# EAGLE library part LOGICPORT (library Intronix LA1034 logicport V2_0 Public)
Logiocanalyzer Connector Intronics Logicport LA1034 connection - - This Library (Lib) is free software: you can redistribute it and/or modify it under the terms of the GNU General Public License as published by the Free Software Foundation, either version 3 of the License, or (at your option) any later version. This lib is distributed in the hope that it will be useful, but WITHOUT ANY WARRANTY; without even the implied warranty of MERCHANTABILITY or FITNESS FOR A PARTICULAR PURPOSE. See the GNU General Public License for more details. You should have received a copy of the GNU General Public License along with this lib. If not, see http://www.gnu.org/licenses/.
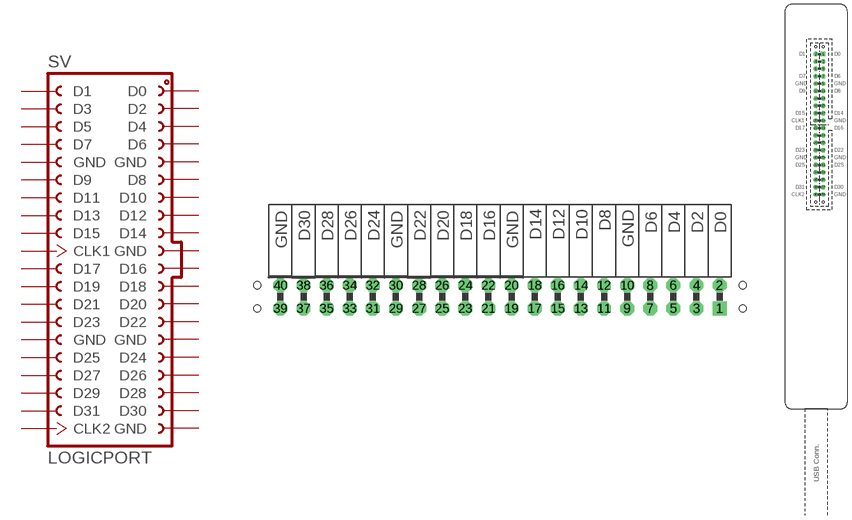
[diagram p0: symbol with the pads of LA-CONNECTOR; footprints LA-CONNECTOR, LA-CONNECTOR-TOP]

Designator prefix SV

## LOGICPORTSIDEMOUNT (OC_FARNELL: unknown; OC_NEWARK: unknown)  [LA-CONNECTOR]
1  D0  in
2  D1  in
3  D2  in
4  D3  in
5  D4  in
6  D5  in
7  D6  in
8  D7  in
9  GND  pwr
10  GND  pwr
11  D8  in
12  D9  in
13  D10  in
14  D11  in
15  D12  in
16  D13  in
17  D14  in
18  D15  in
19  GND  pwr
20  CLK1  in
21  D16  in
22  D17  in
23  D18  in
24  D19  in
25  D20  in
26  D21  in
27  D22  in
28  D23  in
29  GND  pwr
30  GND  pwr
31  D24  in
32  D25  in
33  D26  in
34  D27  in
35  D28  in
36  D29  in
37  D30  in
38  D31  in
39  GND  pwr
40  CLK2  in

## LOGICPORTTOPMOUNT  [LA-CONNECTOR-TOP]
Pads as for LA-CONNECTOR

## Footprint LA-CONNECTOR (pad centres in mm)
FEMALE HEADER
drill 1.016 square: 1 24.13,-1.27
drill 1.016 octagon: 2 24.13,1.27; 3 21.59,-1.27; 4 21.59,1.27; 5 19.05,-1.27; 6 19.05,1.27; 7 16.51,-1.27; 8 16.51,1.27; 9 13.97,-1.27; 10 13.97,1.27; 11 11.43,-1.27; 12 11.43,1.27; 13 8.89,-1.27; 14 8.89,1.27; 15 6.35,-1.27; 16 6.35,1.27; 17 3.81,-1.27; 18 3.81,1.27; 19 1.27,-1.27; 20 1.27,1.27; 21 -1.27,-1.27; 22 -1.27,1.27; 23 -3.81,-1.27; 24 -3.81,1.27; 25 -6.35,-1.27; 26 -6.35,1.27; 27 -8.89,-1.27; 28 -8.89,1.27; 29 -11.43,-1.27; 30 -11.43,1.27; 31 -13.97,-1.27; 32 -13.97,1.27; 33 -16.51,-1.27; 34 -16.51,1.27; 35 -19.05,-1.27; 36 -19.05,1.27; 37 -21.59,-1.27; 38 -21.59,1.27; 39 -24.13,-1.27; 40 -24.13,1.27
hole 0.8 at -26.67,1.27
hole 0.8 at -26.67,-1.27
hole 0.8 at 26.67,1.27
hole 0.8 at 26.67,-1.27

## Footprint LA-CONNECTOR-TOP (pad centres in mm)
drill 1.016 square: 1 1.27,24.13
drill 1.016 octagon: 2 -1.27,24.13; 3 1.27,21.59; 4 -1.27,21.59; 5 1.27,19.05; 6 -1.27,19.05; 7 1.27,16.51; 8 -1.27,16.51; 9 1.27,13.97; 10 -1.27,13.97; 11 1.27,11.43; 12 -1.27,11.43; 13 1.27,8.89; 14 -1.27,8.89; 15 1.27,6.35; 16 -1.27,6.35; 17 1.27,3.81; 18 -1.27,3.81; 19 1.27,1.27; 20 -1.27,1.27; 21 1.27,-1.27; 22 -1.27,-1.27; 23 1.27,-3.81; 24 -1.27,-3.81; 25 1.27,-6.35; 26 -1.27,-6.35; 27 1.27,-8.89; 28 -1.27,-8.89; 29 1.27,-11.43; 30 -1.27,-11.43; 31 1.27,-13.97; 32 -1.27,-13.97; 33 1.27,-16.51; 34 -1.27,-16.51; 35 1.27,-19.05; 36 -1.27,-19.05; 37 1.27,-21.59; 38 -1.27,-21.59; 39 1.27,-24.13; 40 -1.27,-24.13
hole 0.8 at -1.27,-26.67
hole 0.8 at 1.27,-26.67
hole 0.8 at -1.27,26.67
hole 0.8 at 1.27,26.67